# Altium footprint library PCB - RF - AMPLIFIER - QORVO SGL0622Z.PcbLib: 1 footprints
Each footprint in its own frame and in the unit in brackets; x right, y up, seen from the top. Pads: shape width x height; smd on the part's side, far side on the other; paste and mask are expansions set on the pad; w line width, h text height; cw(c..) or ccw(c..) is an arc to the next point about the centre after c.
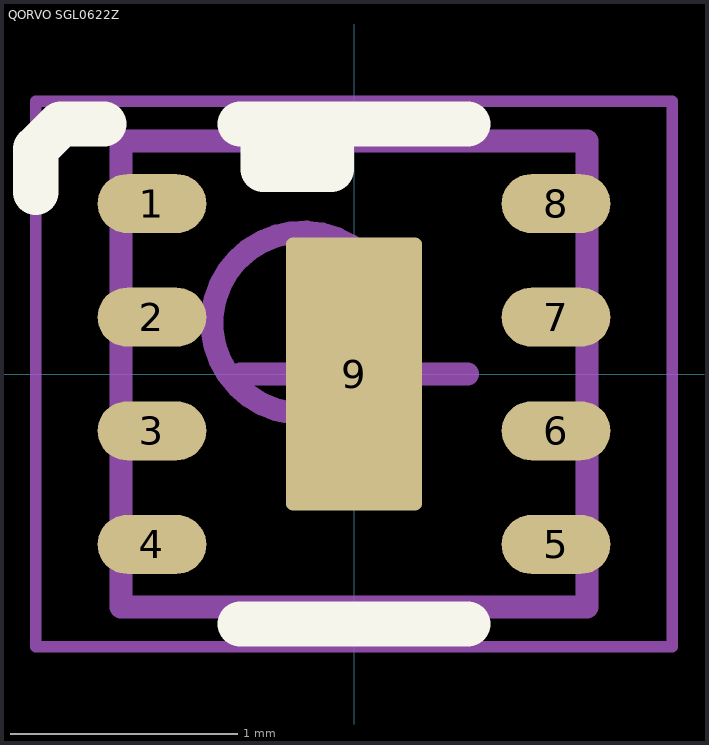
[diagram p0: the footprint, top view; thin cyan lines are the x and y axes]

## QORVO SGL0622Z [mm] "SON, 8-Leads, Body 2.00x2.00mm, Pitch 0.50mm, Thermal Pad 2.40x1.49mm"
height 0.9
pads (9):
  oval 0.478x0.26 smd: 1(-0.889,0.75) 2(-0.889,0.25) 3(-0.889,-0.25) 4(-0.889,-0.75) 5(0.889,-0.75) 6(0.889,-0.25) 7(0.889,0.25) 8(0.889,0.75)
  rrect10% 0.6x1.2 smd: 9(0,0)
Top Overlay:
  rectangle: -0.4,0.9 -0.1,1.1
  lines w0.2: -1.4,0.8 -1.4,0.99 -1.29,1.1 -1.1,1.1 ; -0.5,-1.1 0.5,-1.1 ; -0.1,1.1 -0.1,0.9 -0.4,0.9 -0.4,1.1 -0.5,1.1 0.5,1.1
Mechanical 13:
  circle w0.1: c-0.225,0.225 r0.4
  lines w0.1: -1.025,-1.025 1.025,-1.025 1.025,1.025 -1.025,1.025 -1.025,-1.025
Mechanical 15:
  lines w0.05: -1.4,-1.2 1.4,-1.2 1.4,1.2 -1.4,1.2 -1.4,-1.2
  lines w0.1: -0.5,0 0.5,0 ; 0,-0.5 0,0.5
3D body "QORVO SGL0622Z.step": height 0.9, standoff 0, extent -1.026,-1.025 1.026,1.025